# Altium schematic symbol library GY-69.SchLib: 2 symbols
Pins are listed as number, name and electrical type; pins without a type are passive.

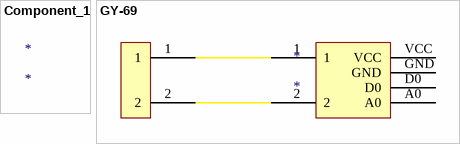
[diagram p0: symbols Component_1 to GY-69]

## Component_1
designator *

## GY-69
designator *
pins: 1, 1, 2, 2, A0, D0, GND, VCC